# Altium footprint library Integrated Circuits Footprints.PcbLib: 32 footprints (part 1 of 2)
Each footprint in its own frame and in the unit in brackets; x right, y up, seen from the top. Pads: shape width x height; smd on the part's side, far side on the other; paste and mask are expansions set on the pad; w line width, h text height; cw(c..) or ccw(c..) is an arc to the next point about the centre after c.
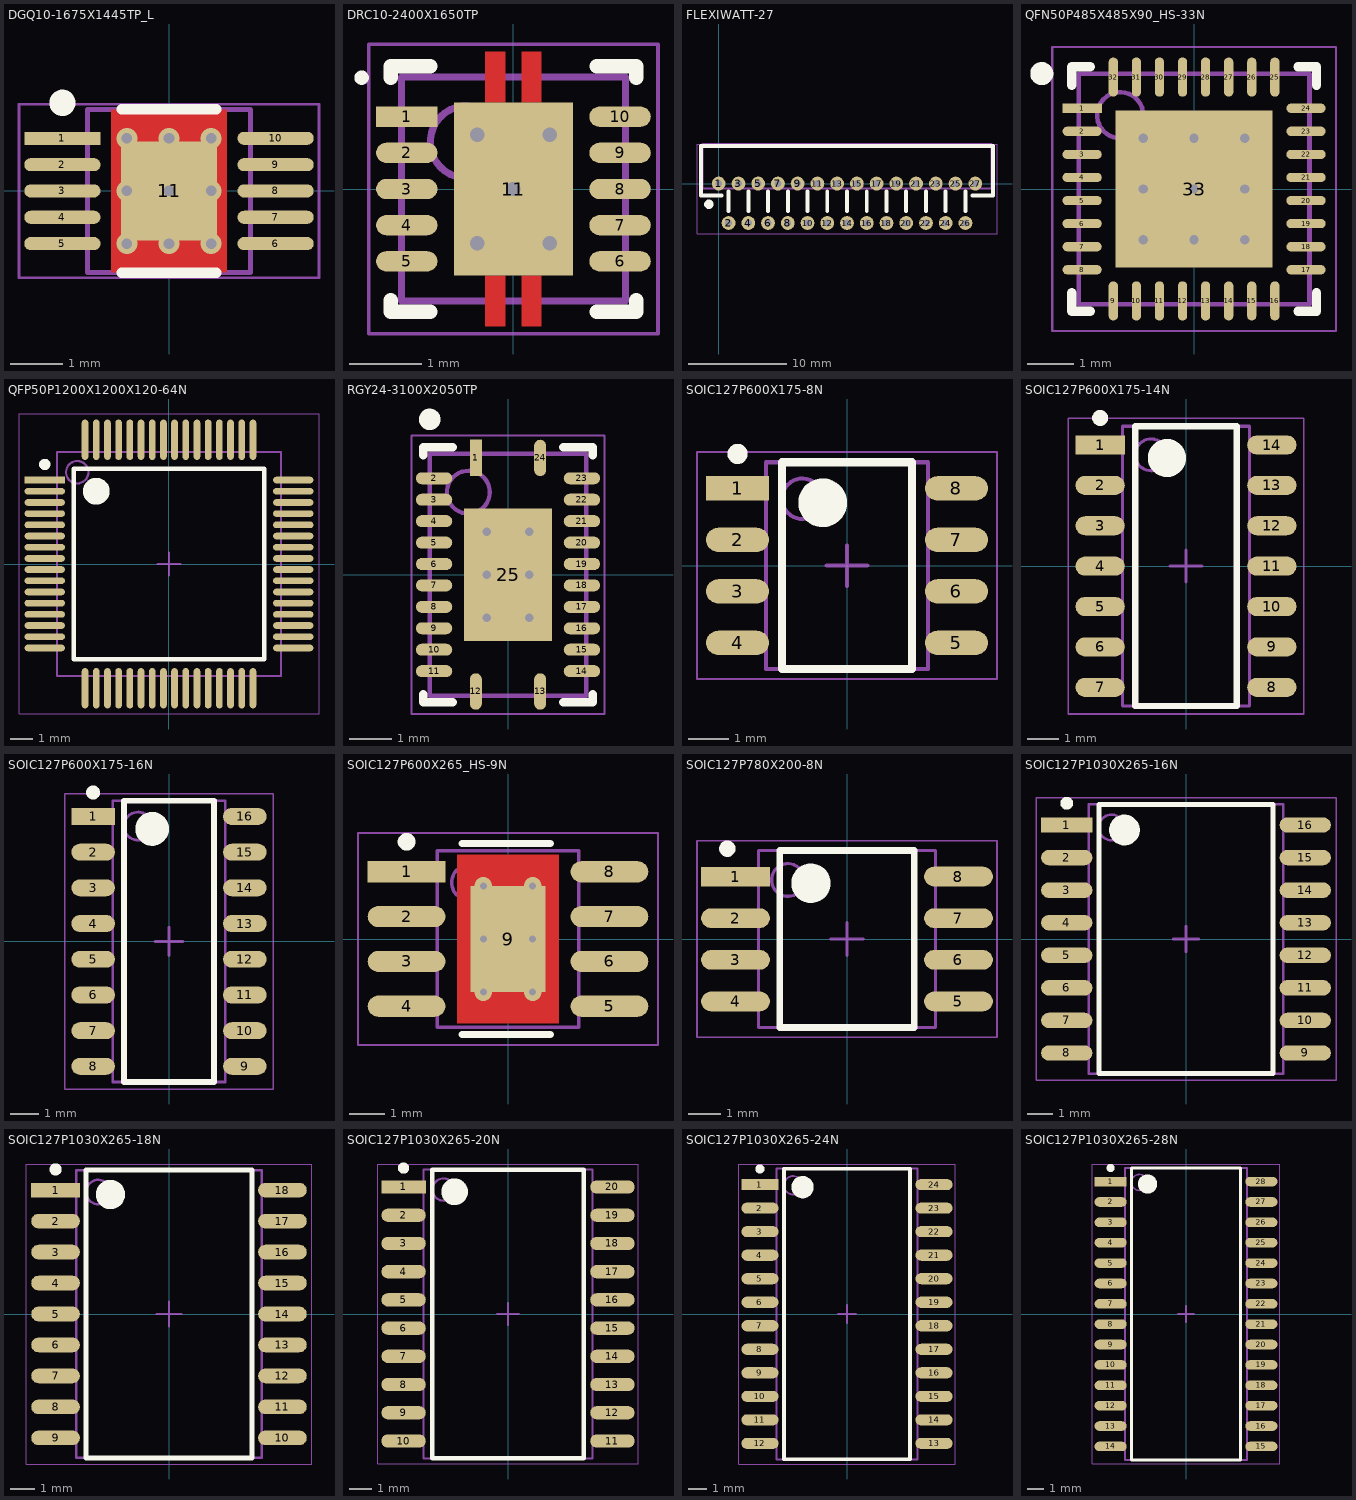
[diagram p0: the footprints below, top view; thin cyan lines are the x and y axes]

## DGQ10-1675X1445TP_L [mm] "TSSOP, 10-Leads, Body 3x3mm, Pitch 0.5mm, Thermal Pad 1.88x1.57mm, IPC High Density"
height 1.1
pads (11):
  rect 1.45x0.25 smd: 1(-2.025,1)
  oval 1.45x0.25 smd: 2(-2.025,0.5) 3(-2.025,0) 4(-2.025,-0.5) 5(-2.025,-1) 6(2.025,-1) 7(2.025,-0.5) 8(2.025,0) 9(2.025,0.5) 10(2.025,1)
  rect 1.82x1.88 smd: 11(0,0)
via 0.8,0 diameter 0.4 hole 0.2
via 0.8,1 diameter 0.4 hole 0.2
via 0.8,-1 diameter 0.4 hole 0.2
via 0,0 diameter 0.4 hole 0.2
via 0,1 diameter 0.4 hole 0.2
via 0,-1 diameter 0.4 hole 0.2
via -0.8,-1 diameter 0.4 hole 0.2
via -0.8,1 diameter 0.4 hole 0.2
via -0.8,0 diameter 0.4 hole 0.2
Top Layer:
  rectangle: -1.1,-1.55 1.1,1.55
Top Overlay:
  circle w0.25: c-2.025,1.675 r0.125
  lines w0.2: -0.9,-1.55 0.9,-1.55 ; -0.9,1.55 0.9,1.55
Mechanical 13:
  lines w0.1: -1.55,-1.55 1.55,-1.55 1.55,1.55 -1.55,1.55 -1.55,-1.55
Mechanical 15:
  lines w0.05: -2.85,-1.65 2.85,-1.65 2.85,1.65 -2.85,1.65 -2.85,-1.65
  lines w0.1: -0.5,0 0.5,0 ; 0,-0.5 0,0.5
3D body: height 1.1, standoff 0.05, extent -1.55,-1.55 1.55,1.55

## DRC10-2400X1650TP [mm] "SON, 10-Leads, Body 3x3mm, Pitch 0.5mm, Thermal Pad 2.4x1.65mm, TI Recommended"
height 1
pads (11):
  rect 0.85x0.28 smd paste-0.025 mask+0.07: 1(-1.475,1)
  oval 0.85x0.28 smd paste-0.025 mask+0.07: 2(-1.475,0.5) 3(-1.475,0) 4(-1.475,-0.5) 5(-1.475,-1) 6(1.475,-1) 7(1.475,-0.5) 8(1.475,0) 9(1.475,0.5) 10(1.475,1)
  rect 1.65x2.4 smd paste-0.825 mask+0.07: 11(0,0)
via 0,0 diameter 0.5 hole 0.2
via 0.5,0.75 diameter 0.5 hole 0.2
via -0.5,0.75 diameter 0.5 hole 0.2
via -0.5,-0.75 diameter 0.5 hole 0.2
via 0.5,-0.75 diameter 0.5 hole 0.2
Top Layer:
  rectangle: -0.39,1.2 -0.11,1.9
  region: 0.39,1.9 0.11,1.9 0.11,1.2 0.39,1.2
  region: 0.39,-1.2 0.11,-1.2 0.11,-1.9 0.39,-1.9
  rectangle: -0.39,-1.9 -0.11,-1.2
Top Overlay:
  circle w0.1: c-2.1,1.54 r0.05
  lines w0.2: -1.7,-1.54 -1.7,-1.7 -1.15,-1.7 ; -1.7,1.54 -1.7,1.7 -1.15,1.7 ; 1.15,-1.7 1.7,-1.7 1.7,-1.54 ; 1.15,1.7 1.7,1.7 1.7,1.54
Top Paste:
  rectangle: -0.79,0.11 -0.11,1.16
  rectangle: -0.38,1.38 -0.12,1.88
  region: 0.38,1.88 0.12,1.88 0.12,1.38 0.38,1.38
  region: 0.38,-1.38 0.12,-1.38 0.12,-1.88 0.38,-1.88
  rectangle: -0.38,-1.88 -0.12,-1.38
  region: 0.79,1.16 0.11,1.16 0.11,0.11 0.79,0.11
  region: 0.79,-0.11 0.11,-0.11 0.11,-1.16 0.79,-1.16
  rectangle: -0.79,-1.16 -0.11,-0.11
Mechanical 13:
  circle w0.1: c-0.65,0.65 r0.5
  lines w0.1: -1.55,-1.55 -1.55,1.55 1.55,1.55 1.55,-1.55 -1.55,-1.55
Mechanical 15:
  lines w0.05: -2,-2 -2,2 2,2 2,-2 -2,-2
3D body: height 1, standoff 0, extent -1.55,-1.55 1.55,1.55

## FLEXIWATT-27 [mm] "ST Flexiwatt,Vertical, 27-Pin, Formed Leads"
height 19.37
pads (27):
  round 1.4 hole 0.7 unplated: 1(0,0) 2(1,-4) 3(2,0) 4(3,-4) 5(4,0) 6(5,-4) 7(6,0) 8(7,-4) 9(8,0) 10(9,-4) 11(10,0) 12(11,-4) 13(12,0) 14(13,-4) 15(14,0) 16(15,-4) 17(16,0) 18(17,-4) 19(18,0) 20(19,-4) 21(20,0) 22(21,-4) 23(22,0) 24(23,-4) 25(24,0) 26(25,-4) 27(26,0)
Top Overlay:
  circle w0.5: c-1,-2.1 r0.224
  lines w0.4: 0.3,-1.2 -1.8,-1.2 -1.8,3.8 27.8,3.8 27.8,-1.2 25.7,-1.2 ; 1,-2.8 1,-0.8 ; 3,-2.8 3,-0.8 ; 5,-2.8 5,-0.8 ; 7,-2.8 7,-0.8 ; 9,-2.8 9,-0.8 ; 11,-2.8 11,-0.8 ; 13,-2.8 13,-0.8 ; 15,-2.8 15,-0.8 ; 17,-2.8 17,-0.8 ; 19,-2.8 19,-0.8 ; 21,-2.8 21,-0.8 ; 23,-2.8 23,-0.8 ; 25,-2.8 25,-0.8
Mechanical 13:
  lines w0.2: -1.65,-0.5 -1.65,4 27.65,4 27.65,-0.5 -1.65,-0.5
Mechanical 15:
  lines w0.05: -2.2,-5.1 -2.2,3.9 -2.2,4 28.2,4 28.2,-5.1 13,-5.1 -2.2,-5.1
3D body: height 18.97, standoff 3.27, extent -1.65,-0.55 27.65,3.95

## QFN50P485X485X90_HS-33N [mm] "QFN, 32-Leads, Body 4.85x4.85mm, Pitch 0.50mm, Thermal Pad 3.40x3.40mm, IPC Medium Density"
height 0.9
pads (33):
  rect 0.85x0.2 smd: 1(-2.425,1.75)
  oval 0.85x0.2 smd: 2(-2.425,1.25) 3(-2.425,0.75) 4(-2.425,0.25) 5(-2.425,-0.25) 6(-2.425,-0.75) 7(-2.425,-1.25) 8(-2.425,-1.75) 17(2.425,-1.75) 18(2.425,-1.25) 19(2.425,-0.75) 20(2.425,-0.25) 21(2.425,0.25) 22(2.425,0.75) 23(2.425,1.25) 24(2.425,1.75)
  oval 0.2x0.85 smd: 9(-1.75,-2.425) 10(-1.25,-2.425) 11(-0.75,-2.425) 12(-0.25,-2.425) 13(0.25,-2.425) 14(0.75,-2.425) 15(1.25,-2.425) 16(1.75,-2.425) 25(1.75,2.425) 26(1.25,2.425) 27(0.75,2.425) 28(0.25,2.425) 29(-0.25,2.425) 30(-0.75,2.425) 31(-1.25,2.425) 32(-1.75,2.425)
  rect 3.4x3.4 smd: 33(0,0)
via -1.1,1.1 diameter 0.5 hole 0.2
via 0,1.1 diameter 0.5 hole 0.2
via 1.1,1.1 diameter 0.5 hole 0.2
via -1.1,0 diameter 0.5 hole 0.2
via 0,0 diameter 0.5 hole 0.2
via 1.1,0 diameter 0.5 hole 0.2
via -1.1,-1.1 diameter 0.5 hole 0.2
via 0,-1.1 diameter 0.5 hole 0.2
via 1.1,-1.1 diameter 0.5 hole 0.2
Top Overlay:
  circle w0.25: c-3.3,2.5 r0.125
  lines w0.2: -2.65,-2.25 -2.65,-2.65 -2.25,-2.65 ; -2.65,2.25 -2.65,2.65 -2.25,2.65 ; 2.25,-2.65 2.65,-2.65 2.65,-2.25 ; 2.25,2.65 2.65,2.65 2.65,2.25
Mechanical 13:
  circle w0.1: c-1.6,1.6 r0.5
  lines w0.1: -2.5,-2.5 -2.5,2.5 2.5,2.5 2.5,-2.5 -2.5,-2.5
Mechanical 15:
  lines w0.05: -3.075,-3.075 -3.075,3.075 3.075,3.075 3.075,-3.075 -3.075,-3.075
  lines w0.1: -0.5,0 0.5,0 ; 0,-0.5 0,0.5
3D body: height 0.9, standoff 0.08, extent -2.5,-2.5 2.5,2.5

## QFP50P1200X1200X120-64N [mm] "Thin QFP, 64-Leads, Body 10x10mm, Pitch 0.5mm, IPC Medium Density"
height 1.2
pads (64):
  rect 1.8x0.3 smd: 1(-5.55,3.75)
  oval 1.8x0.3 smd: 2(-5.55,3.25) 3(-5.55,2.75) 4(-5.55,2.25) 5(-5.55,1.75) 6(-5.55,1.25) 7(-5.55,0.75) 8(-5.55,0.25) 9(-5.55,-0.25) 10(-5.55,-0.75) 11(-5.55,-1.25) 12(-5.55,-1.75) 13(-5.55,-2.25) 14(-5.55,-2.75) 15(-5.55,-3.25) 16(-5.55,-3.75) 33(5.55,-3.75) 34(5.55,-3.25) 35(5.55,-2.75) 36(5.55,-2.25) 37(5.55,-1.75) 38(5.55,-1.25) 39(5.55,-0.75) 40(5.55,-0.25) 41(5.55,0.25) 42(5.55,0.75) 43(5.55,1.25) 44(5.55,1.75) 45(5.55,2.25) 46(5.55,2.75) 47(5.55,3.25) 48(5.55,3.75)
  oval 0.3x1.8 smd: 17(-3.75,-5.55) 18(-3.25,-5.55) 19(-2.75,-5.55) 20(-2.25,-5.55) 21(-1.75,-5.55) 22(-1.25,-5.55) 23(-0.75,-5.55) 24(-0.25,-5.55) 25(0.25,-5.55) 26(0.75,-5.55) 27(1.25,-5.55) 28(1.75,-5.55) 29(2.25,-5.55) 30(2.75,-5.55) 31(3.25,-5.55) 32(3.75,-5.55) 49(3.75,5.55) 50(3.25,5.55) 51(2.75,5.55) 52(2.25,5.55) 53(1.75,5.55) 54(1.25,5.55) 55(0.75,5.55) 56(0.25,5.55) 57(-0.25,5.55) 58(-0.75,5.55) 59(-1.25,5.55) 60(-1.75,5.55) 61(-2.25,5.55) 62(-2.75,5.55) 63(-3.25,5.55) 64(-3.75,5.55)
Top Overlay:
  circle w0.6: c-3.25,3.25 r0.3
  circle w0.25: c-5.55,4.45 r0.125
  lines w0.2: -4.25,-4.25 4.25,-4.25 4.25,4.25 -4.25,4.25 -4.25,-4.25
Mechanical 13:
  circle w0.1: c-4.1,4.1 r0.5
  lines w0.1: -5,-5 5,-5 5,5 -5,5 -5,-5
Mechanical 15:
  lines w0.05: -6.7,-6.7 6.7,-6.7 6.7,6.7 -6.7,6.7 -6.7,-6.7
  lines w0.1: -0.5,0 0.5,0 ; 0,-0.5 0,0.5
3D body "User Library-IPC QFP-fullQFP50P1200X1200X120-64N MS-026ACD SU-64-2.SLDPRT": height 1.35, standoff 0, extent -6.014,-6.014 6.014,6.014

## RGY24-3100X2050TP [mm] "QFN, 24-Leads, Body 5.5x3.5mm, Pitch 0.5mm, Thermal Pad 3.1x2.05mm, TI Recommended"
height 1
pads (25):
  rect 0.28x0.85 smd paste-0.025 mask+0.07: 1(-0.75,2.725)
  oval 0.85x0.28 smd paste-0.025 mask+0.07: 2(-1.725,2.25) 3(-1.725,1.75) 4(-1.725,1.25) 5(-1.725,0.75) 6(-1.725,0.25) 7(-1.725,-0.25) 8(-1.725,-0.75) 9(-1.725,-1.25) 10(-1.725,-1.75) 11(-1.725,-2.25) 14(1.725,-2.25) 15(1.725,-1.75) 16(1.725,-1.25) 17(1.725,-0.75) 18(1.725,-0.25) 19(1.725,0.25) 20(1.725,0.75) 21(1.725,1.25) 22(1.725,1.75) 23(1.725,2.25)
  oval 0.28x0.85 smd paste-0.025 mask+0.07: 12(-0.75,-2.725) 13(0.75,-2.725) 24(0.75,2.725)
  rect 2.05x3.1 smd paste-1.025 mask+0.07: 25(0,0)
via -0.5,1 diameter 0.5 hole 0.2
via -0.5,0 diameter 0.5 hole 0.2
via -0.5,-1 diameter 0.5 hole 0.2
via 0.5,1 diameter 0.5 hole 0.2
via 0.5,0 diameter 0.5 hole 0.2
via 0.5,-1 diameter 0.5 hole 0.2
Top Overlay:
  circle w0.25: c-1.825,3.625 r0.125
  lines w0.2: -1.975,-2.79 -1.975,-2.975 -1.29,-2.975 ; -1.975,2.79 -1.975,2.975 -1.29,2.975 ; 1.29,-2.975 1.975,-2.975 1.975,-2.79 ; 1.29,2.975 1.975,2.975 1.975,2.79
Top Paste:
  region: -0.97,1.47 -0.97,0.15 -0.15,0.15 -0.15,1.47
  region: -0.15,-1.47 -0.15,-0.15 -0.97,-0.15 -0.97,-1.47
  region: 0.97,-1.47 0.97,-0.15 0.15,-0.15 0.15,-1.47
  region: 0.15,1.47 0.15,0.15 0.97,0.15 0.97,1.47
Mechanical 13:
  circle w0.1: c-0.925,1.925 r0.5
  lines w0.1: -1.825,-2.825 -1.825,2.825 1.825,2.825 1.825,-2.825 -1.825,-2.825
Mechanical 15:
  lines w0.05: -2.25,-3.25 -2.25,3.25 2.25,3.25 2.25,-3.25 -2.25,-3.25
  lines w0.1: -0.5,0 0.5,0 ; 0,-0.5 0,0.5
3D body: height 1, standoff 0, extent -1.825,-2.825 1.825,2.825

## SOIC127P600X175-8N [mm] "SOIC, 8-Leads, Body 4.95x3.90mm, Pitch 1.27mm, IPC Medium Density"
height 1.75
pads (8):
  rect 1.55x0.6 smd: 1(-2.7,1.905)
  oval 1.55x0.6 smd: 2(-2.7,0.635) 3(-2.7,-0.635) 4(-2.7,-1.905) 5(2.7,-1.905) 6(2.7,-0.635) 7(2.7,0.635) 8(2.7,1.905)
Top Overlay:
  circle w0.25: c-2.7,2.755 r0.125
  circle w0.6: c-0.6,1.55 r0.3
  lines w0.2: -1.6,-2.55 -1.6,2.55 1.6,2.55 1.6,-2.55 -1.6,-2.55
Mechanical 13:
  circle w0.1: c-1.1,1.65 r0.5
  lines w0.1: -2,-2.55 -2,2.55 2,2.55 2,-2.55 -2,-2.55
Mechanical 15:
  lines w0.05: -3.7,-2.8 -3.7,2.8 3.7,2.8 3.7,-2.8 -3.7,-2.8
  lines w0.1: -0.5,0 0.5,0 ; 0,-0.5 0,0.5
3D body "SOIC127P600X175-8N.step": height 1.9, standoff 0, extent -3.028,-2.5 3.028,2.5

## SOIC127P600X175-14N [mm] "SOIC, 14-Leads, Body 8.63x3.90mm, Pitch 1.27mm, IPC Medium Density"
height 1.75
pads (14):
  rect 1.55x0.6 smd: 1(-2.7,3.81)
  oval 1.55x0.6 smd: 2(-2.7,2.54) 3(-2.7,1.27) 4(-2.7,0) 5(-2.7,-1.27) 6(-2.7,-2.54) 7(-2.7,-3.81) 8(2.7,-3.81) 9(2.7,-2.54) 10(2.7,-1.27) 11(2.7,0) 12(2.7,1.27) 13(2.7,2.54) 14(2.7,3.81)
Top Overlay:
  circle w0.6: c-0.6,3.4 r0.3
  circle w0.25: c-2.7,4.66 r0.125
  lines w0.2: -1.6,-4.4 1.6,-4.4 1.6,4.4 -1.6,4.4 -1.6,-4.4
Mechanical 13:
  circle w0.1: c-1.1,3.5 r0.5
  lines w0.1: -2,-4.4 2,-4.4 2,4.4 -2,4.4 -2,-4.4
Mechanical 15:
  lines w0.05: -3.7,-4.65 3.7,-4.65 3.7,4.65 -3.7,4.65 -3.7,-4.65
  lines w0.1: -0.5,0 0.5,0 ; 0,-0.5 0,0.5
3D body "SOIC127P600X175-14N.step": height 1.9, standoff 0, extent -3.028,-4.375 3.028,4.375

## SOIC127P600X175-16N [mm] "SOIC, 16-Leads, Body 9.90x3.90mm, Pitch 1.27mm, IPC Medium Density"
height 1.75
pads (16):
  rect 1.55x0.6 smd: 1(-2.7,4.445)
  oval 1.55x0.6 smd: 2(-2.7,3.175) 3(-2.7,1.905) 4(-2.7,0.635) 5(-2.7,-0.635) 6(-2.7,-1.905) 7(-2.7,-3.175) 8(-2.7,-4.445) 9(2.7,-4.445) 10(2.7,-3.175) 11(2.7,-1.905) 12(2.7,-0.635) 13(2.7,0.635) 14(2.7,1.905) 15(2.7,3.175) 16(2.7,4.445)
Top Overlay:
  circle w0.25: c-2.7,5.295 r0.125
  circle w0.6: c-0.6,4 r0.3
  lines w0.2: -1.6,-5 -1.6,5 1.6,5 1.6,-5 -1.6,-5
Mechanical 13:
  circle w0.1: c-1.1,4.1 r0.5
  lines w0.1: -2,-5 -2,5 2,5 2,-5 -2,-5
Mechanical 15:
  lines w0.05: -3.7,-5.25 -3.7,5.25 3.7,5.25 3.7,-5.25 -3.7,-5.25
  lines w0.1: -0.5,0 0.5,0 ; 0,-0.5 0,0.5
3D body "SOIC127P600X175-16N.step": height 1.9, standoff 0, extent -3.028,-5 3.028,5

## SOIC127P600X265_HS-9N [mm] "SOIC, 8-Leads, Body 4.90x3.90mm, Pitch 1.27mm, Thermal Pad 3.00.2x2.13.2mm, IPC Medium Density"
height 2.65
pads (9):
  rect 2.2x0.6 smd: 1(-2.875,1.905)
  oval 2.2x0.6 smd: 2(-2.875,0.635) 3(-2.875,-0.635) 4(-2.875,-1.905) 5(2.875,-1.905) 6(2.875,-0.635) 7(2.875,0.635) 8(2.875,1.905)
  rect 2.13x3 smd: 9(0,0)
via 0.7,-1.5 diameter 0.5 hole 0.2
via 0.7,1.5 diameter 0.5 hole 0.2
via 0.7,0 diameter 0.5 hole 0.2
via -0.7,0 diameter 0.5 hole 0.2
via -0.7,1.5 diameter 0.5 hole 0.2
via -0.7,-1.5 diameter 0.5 hole 0.2
Top Layer:
  rectangle: -1.45,-2.4 1.45,2.4
Top Overlay:
  circle w0.25: c-2.875,2.755 r0.125
  lines w0.2: -1.3,-2.7 1.2,-2.7 ; -1.3,2.7 1.2,2.7
Mechanical 13:
  circle w0.1: c-1.1,1.6 r0.5
  lines w0.1: -2,-2.5 -2,2.5 2,2.5 2,-2.5 -2,-2.5
Mechanical 15:
  lines w0.05: -4.25,-3 -4.25,3 4.25,3 4.25,-3 -4.25,-3
  lines w0.1: -0.5,0 0.5,0 ; 0,-0.5 0,0.5
3D body "SOIC127P600X175-8N.step": height 1.9, standoff 0, extent -3.028,-2.5 3.028,2.5

## SOIC127P780X200-8N [mm] "SOIC, 8-Leads, Body 5.29x5.29mm, Pitch 1.27mm, IPC Medium Density"
height 2
pads (8):
  rect 2.1x0.6 smd: 1(-3.4,1.9)
  oval 2.1x0.6 smd: 2(-3.4,0.635) 3(-3.4,-0.635) 4(-3.4,-1.905) 5(3.4,-1.905) 6(3.4,-0.635) 7(3.4,0.635) 8(3.4,1.905)
Top Overlay:
  circle w0.25: c-3.65,2.755 r0.125
  circle w0.6: c-1.1,1.7 r0.3
  lines w0.2: -2.05,-2.7 -2.05,2.7 2.05,2.7 2.05,-2.7 -2.05,-2.7
Mechanical 13:
  circle w0.1: c-1.8,1.8 r0.5
  lines w0.1: -2.7,-2.7 -2.7,2.7 2.7,2.7 2.7,-2.7 -2.7,-2.7
Mechanical 15:
  lines w0.05: -4.575,-3 -4.575,3 4.575,3 4.575,-3 -4.575,-3
  lines w0.1: -0.5,0 0.5,0 ; 0,-0.5 0,0.5
3D body "SOIC127P780X200-8N.step": height 2.15, standoff 0, extent -3.928,-3.25 3.928,3.25

## SOIC127P1030X265-16N [mm] "SOIC, 16-Leads, Body 10.25x7.50mm, Pitch 1.27mm, IPC Medium Density"
height 2.65
pads (16):
  rect 2x0.6 smd: 1(-4.65,4.445)
  oval 2x0.6 smd: 2(-4.65,3.175) 3(-4.65,1.905) 4(-4.65,0.635) 5(-4.65,-0.635) 6(-4.65,-1.905) 7(-4.65,-3.175) 8(-4.65,-4.445) 9(4.65,-4.445) 10(4.65,-3.175) 11(4.65,-1.905) 12(4.65,-0.635) 13(4.65,0.635) 14(4.65,1.905) 15(4.65,3.175) 16(4.65,4.445)
Top Overlay:
  circle w0.25: c-4.65,5.295 r0.125
  circle w0.6: c-2.4,4.25 r0.3
  lines w0.2: -3.4,-5.25 -3.4,5.25 3.4,5.25 3.4,-5.25 -3.4,-5.25
Mechanical 13:
  circle w0.1: c-2.9,4.35 r0.5
  lines w0.1: -3.8,-5.25 -3.8,5.25 3.8,5.25 3.8,-5.25 -3.8,-5.25
Mechanical 15:
  lines w0.05: -5.85,-5.5 -5.85,5.5 5.85,5.5 5.85,-5.5 -5.85,-5.5
  lines w0.1: -0.5,0 0.5,0 ; 0,-0.5 0,0.5
3D body "SOIC127P1030X256-16N.step": height 2.8, standoff 0, extent -5.178,-5.25 5.178,5.25

## SOIC127P1030X265-18N [mm] "SOIC, 18-Leads, Body 11.40x7.50mm, Pitch 1.27mm, IPC Medium Density"
height 2.65
pads (18):
  rect 2x0.6 smd: 1(-4.65,5.08)
  oval 2x0.6 smd: 2(-4.65,3.81) 3(-4.65,2.54) 4(-4.65,1.27) 5(-4.65,0) 6(-4.65,-1.27) 7(-4.65,-2.54) 8(-4.65,-3.81) 9(-4.65,-5.08) 10(4.65,-5.08) 11(4.65,-3.81) 12(4.65,-2.54) 13(4.65,-1.27) 14(4.65,0) 15(4.65,1.27) 16(4.65,2.54) 17(4.65,3.81) 18(4.65,5.08)
Top Overlay:
  circle w0.25: c-4.65,5.93 r0.125
  circle w0.6: c-2.4,4.9 r0.3
  lines w0.2: -3.4,-5.9 -3.4,5.9 3.4,5.9 3.4,-5.9 -3.4,-5.9
Mechanical 13:
  circle w0.1: c-2.9,5 r0.5
  lines w0.1: -3.8,-5.9 -3.8,5.9 3.8,5.9 3.8,-5.9 -3.8,-5.9
Mechanical 15:
  lines w0.05: -5.85,-6.15 -5.85,6.15 5.85,6.15 5.85,-6.15 -5.85,-6.15
  lines w0.1: -0.5,0 0.5,0 ; 0,-0.5 0,0.5
3D body "SOIC127P1030X256-18N.step": height 2.8, standoff 0, extent -5.178,-6.95 5.178,6.95

## SOIC127P1030X265-20N [mm] "SOIC, 20-Leads, Body 12.75x7.50mm, Pitch 1.27mm, IPC Medium Density"
height 2.65
pads (20):
  rect 2x0.6 smd: 1(-4.7,5.715)
  oval 2x0.6 smd: 2(-4.7,4.445) 3(-4.7,3.175) 4(-4.7,1.905) 5(-4.7,0.635) 6(-4.7,-0.635) 7(-4.7,-1.905) 8(-4.7,-3.175) 9(-4.7,-4.445) 10(-4.7,-5.715) 11(4.7,-5.715) 12(4.7,-4.445) 13(4.7,-3.175) 14(4.7,-1.905) 15(4.7,-0.635) 16(4.7,0.635) 17(4.7,1.905) 18(4.7,3.175) 19(4.7,4.445) 20(4.7,5.715)
Top Overlay:
  circle w0.6: c-2.4,5.5 r0.3
  circle w0.25: c-4.7,6.565 r0.125
  lines w0.2: -3.4,-6.5 3.4,-6.5 3.4,6.5 -3.4,6.5 -3.4,-6.5
Mechanical 13:
  circle w0.1: c-2.9,5.6 r0.5
  lines w0.1: -3.8,-6.5 3.8,-6.5 3.8,6.5 -3.8,6.5 -3.8,-6.5
Mechanical 15:
  lines w0.05: -5.85,-6.75 5.85,-6.75 5.85,6.75 -5.85,6.75 -5.85,-6.75
  lines w0.1: -0.5,0 0.5,0 ; 0,-0.5 0,0.5
3D body "SOIC127P1030X256-20N.step": height 2.8, standoff 0, extent -5.178,-6.5 5.178,6.5

## SOIC127P1030X265-24N [mm] "SOIC, 24-Leads, Body 15.45x7.50mm, Pitch 1.27mm, IPC Medium Density"
height 2.65
pads (24):
  rect 2x0.6 smd: 1(-4.7,6.985)
  oval 2x0.6 smd: 2(-4.7,5.715) 3(-4.7,4.445) 4(-4.7,3.175) 5(-4.7,1.905) 6(-4.7,0.635) 7(-4.7,-0.635) 8(-4.7,-1.905) 9(-4.7,-3.175) 10(-4.7,-4.445) 11(-4.7,-5.715) 12(-4.7,-6.985) 13(4.7,-6.985) 14(4.7,-5.715) 15(4.7,-4.445) 16(4.7,-3.175) 17(4.7,-1.905) 18(4.7,-0.635) 19(4.7,0.635) 20(4.7,1.905) 21(4.7,3.175) 22(4.7,4.445) 23(4.7,5.715) 24(4.7,6.985)
Top Overlay:
  circle w0.6: c-2.4,6.85 r0.3
  circle w0.25: c-4.7,7.835 r0.125
  lines w0.2: -3.4,-7.85 3.4,-7.85 3.4,7.85 -3.4,7.85 -3.4,-7.85
Mechanical 13:
  circle w0.1: c-2.9,6.95 r0.5
  lines w0.1: -3.8,-7.85 3.8,-7.85 3.8,7.85 -3.8,7.85 -3.8,-7.85
Mechanical 15:
  lines w0.05: -5.85,-8.1 5.85,-8.1 5.85,8.1 -5.85,8.1 -5.85,-8.1
  lines w0.1: -0.5,0 0.5,0 ; 0,-0.5 0,0.5
3D body "SOIC127P1030X256-24N.step": height 2.8, standoff 0, extent -5.178,-7.8 5.178,7.8

## SOIC127P1030X265-28N [mm] "SOIC, 28-Leads, Body 17.95x7.50mm, Pitch 1.27mm, IPC Medium Density"
height 2.65
pads (28):
  rect 2x0.6 smd: 1(-4.7,8.255)
  oval 2x0.6 smd: 2(-4.7,6.985) 3(-4.7,5.715) 4(-4.7,4.445) 5(-4.7,3.175) 6(-4.7,1.905) 7(-4.7,0.635) 8(-4.7,-0.635) 9(-4.7,-1.905) 10(-4.7,-3.175) 11(-4.7,-4.445) 12(-4.7,-5.715) 13(-4.7,-6.985) 14(-4.7,-8.255) 15(4.7,-8.255) 16(4.7,-6.985) 17(4.7,-5.715) 18(4.7,-4.445) 19(4.7,-3.175) 20(4.7,-1.905) 21(4.7,-0.635) 22(4.7,0.635) 23(4.7,1.905) 24(4.7,3.175) 25(4.7,4.445) 26(4.7,5.715) 27(4.7,6.985) 28(4.7,8.255)
Top Overlay:
  circle w0.6: c-2.4,8.1 r0.3
  circle w0.25: c-4.7,9.105 r0.125
  lines w0.2: -3.4,-9.1 3.4,-9.1 3.4,9.1 -3.4,9.1 -3.4,-9.1
Mechanical 13:
  circle w0.1: c-2.9,8.2 r0.5
  lines w0.1: -3.8,-9.1 3.8,-9.1 3.8,9.1 -3.8,9.1 -3.8,-9.1
Mechanical 15:
  lines w0.05: -5.85,-9.35 5.85,-9.35 5.85,9.35 -5.85,9.35 -5.85,-9.35
  lines w0.1: -0.5,0 0.5,0 ; 0,-0.5 0,0.5
3D body "SOIC127P1030X256-28N.step": height 2.8, standoff 0, extent -5.178,-9.05 5.178,9.05